# EAGLE library part ACS764 (library allegro)
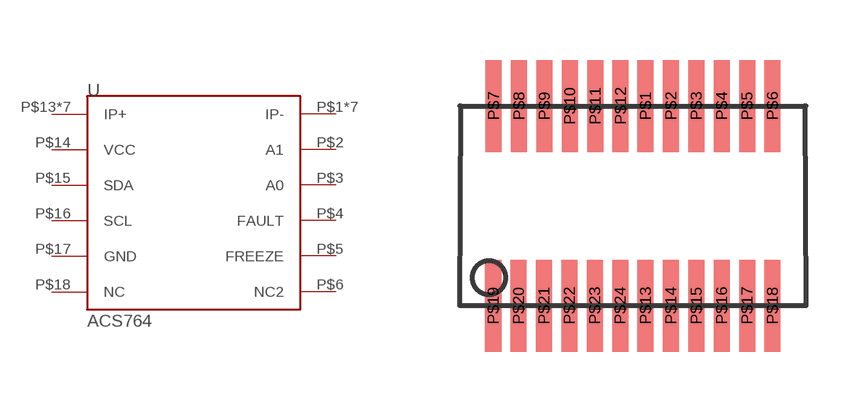
[diagram p1: symbol with the pads of ACS764; footprint ACS764]

Designator prefix -

## ACS764  [ACS764]
P$1  IP-
P$2  A1
P$3  A0
P$4  FAULT
P$5  FREEZE
P$6  NC2
P$7  IP-
P$8  IP-
P$9  IP-
P$10  IP-
P$11  IP-
P$12  IP-
P$13  IP+
P$14  VCC
P$15  SDA
P$16  SCL
P$17  GND
P$18  NC
P$19  IP+
P$20  IP+
P$21  IP+
P$22  IP+
P$23  IP+
P$24  IP+

## Footprint ACS764 (pad centres in mm)
smd 0.4 x 2.3: P$1 0.318,2.5; P$2 0.953,2.5; P$3 1.587,2.5; P$4 2.223,2.5; P$5 2.857,2.5; P$6 3.493,2.5; P$7 -3.482,2.5; P$8 -2.848,2.5; P$9 -2.212,2.5; P$10 -1.577,2.5; P$11 -0.943,2.5; P$12 -0.307,2.5; P$13 0.318,-2.5; P$14 0.953,-2.5; P$15 1.587,-2.5; P$16 2.223,-2.5; P$17 2.857,-2.5; P$18 3.493,-2.5; P$19 -3.493,-2.5; P$20 -2.857,-2.5; P$21 -2.223,-2.5; P$22 -1.587,-2.5; P$23 -0.953,-2.5; P$24 -0.318,-2.5